# Altium schematic symbol library kmilo17pet-TI_LDO_400_7500.SchLib: 1409 symbols (part 11 of 60)
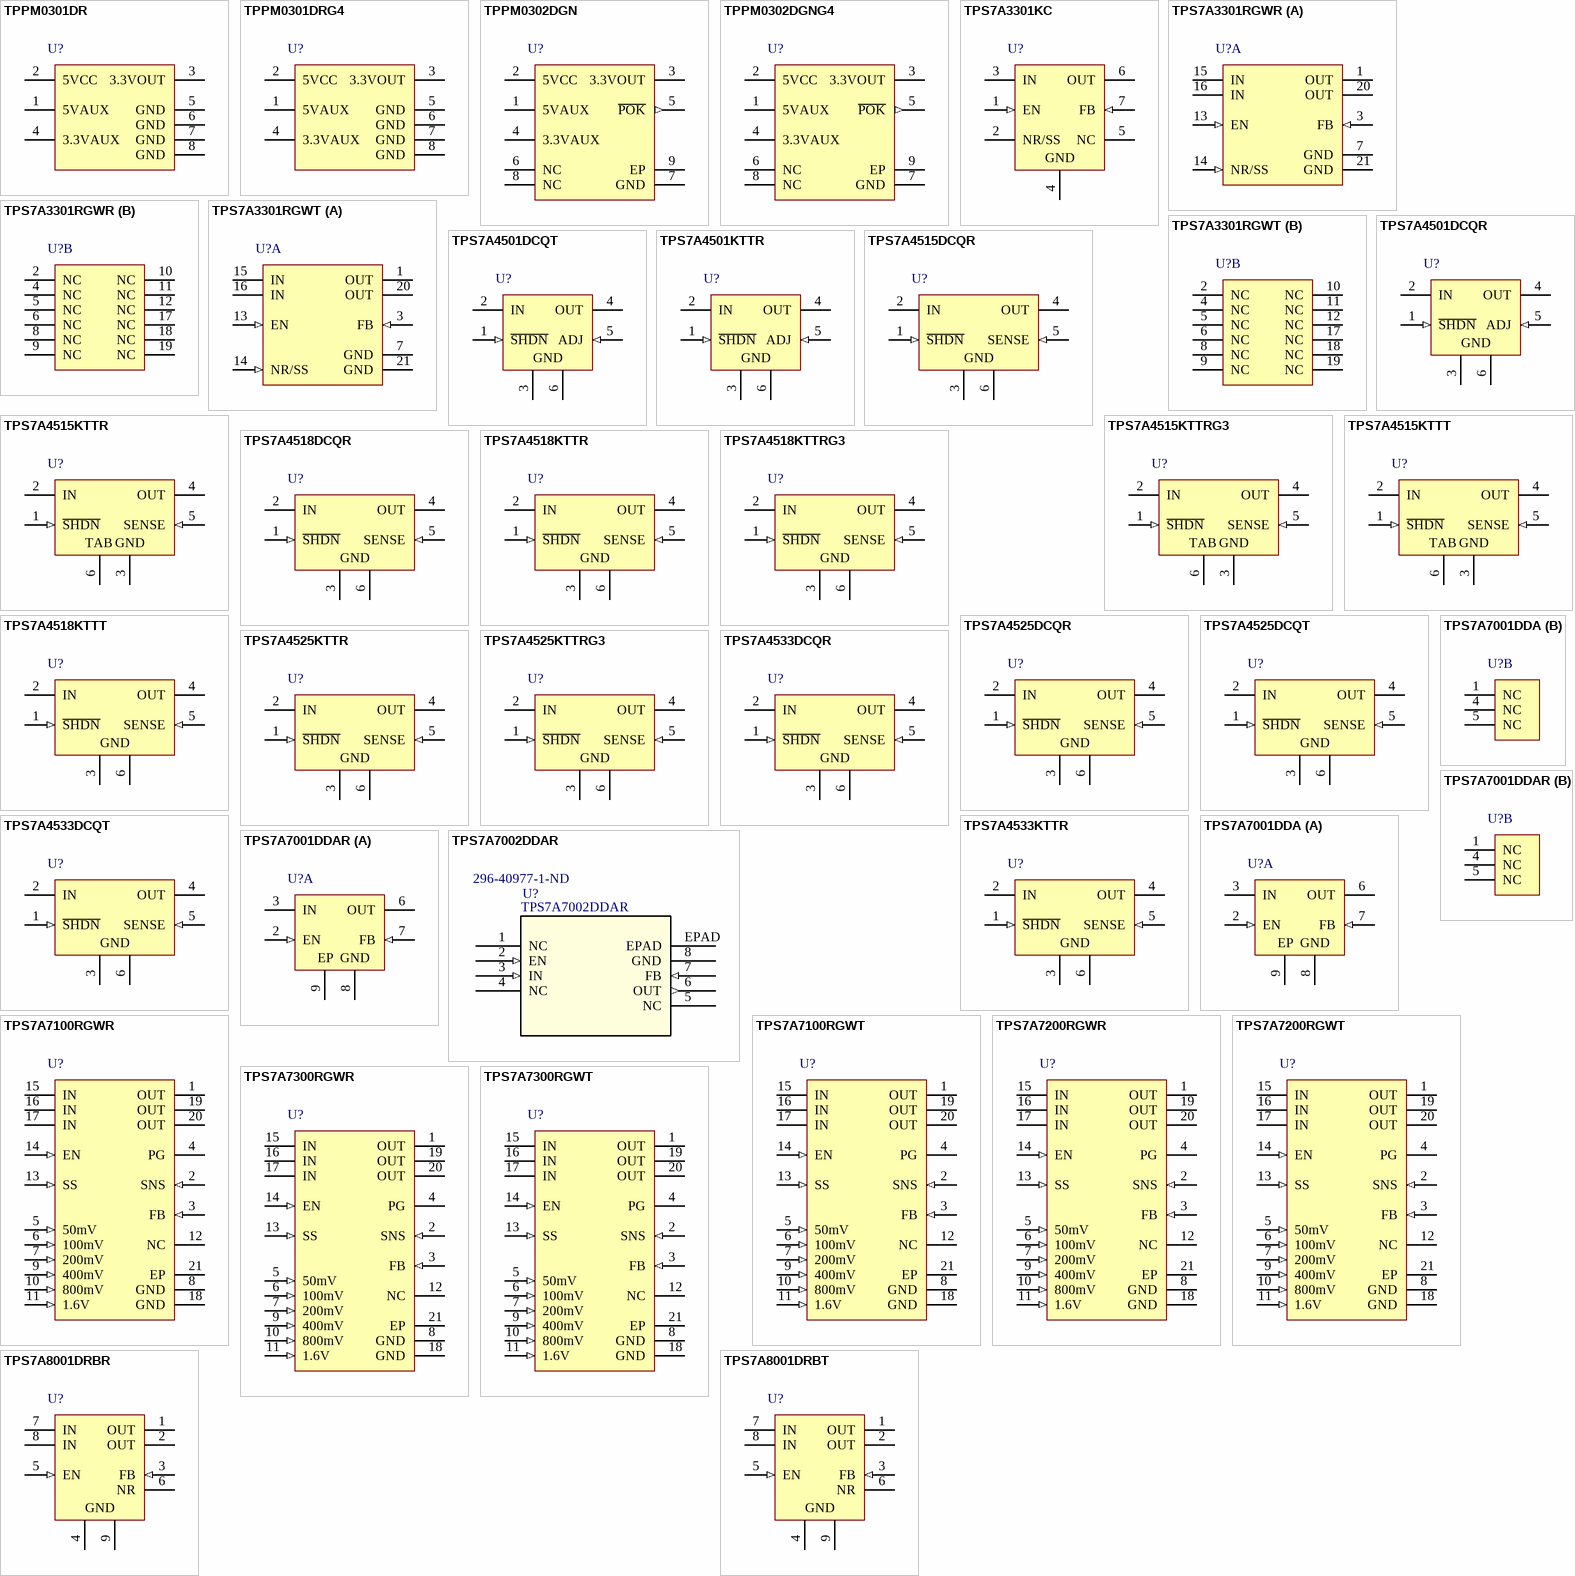
[diagram p60: symbols TPPM0301DR to TPS7A8001DRBT]

## TPS7A7100RGWR
designator U?
Single Output Very Low Input LDO, 1 A, Adjustable 0.9 to 5 V Output, 1.5 to 6.5 V Input, 20-pin VQFN (RGW), -40 to 125 degC, Green (RoHS & no Sb/Br); Manufacturer: Texas Instruments; PartNumber: TPS7A7100RGWR; Accuracy(%): 2; Iout(Max)(A): 1; Iq(Typ)(mA): 0.01; Power Good: TRUE; SubFamily: Single Channel LDO; Vdo(Typ)(mV): 200; Vin(Max)(V): 6.5; Vin(Min)(V): 1.5; Vout Adj(Max)(V): 5; Vout Adj(Min)(V): 0.9; DatasheetVersion: SBVS189C; PackageReference: RGW20-3150X3150TP; PackageDescription: 20-Pin Plastic Quad Flat No-Pin, 5 x 5 mm Body, 0.65 mm Pitch, 3.15 x 3.15 mm Exposed Pad; Supplier 1: Digi-Key; Supplier Part Number 1: TPS7A7100RGWR-ND; Supplier 2: Newark; Supplier Part Number 2: 92T2395; Supplier 3: Mouser; Supplier Part Number 3: 595-TPS7A7100RGWR; Eco-Plan: Green (RoHS & no Sb/Br); Mounting Technology: Surface Mount; Code_JEDEC: MO-220; ComponentLink1Description: Manufacturer URL; ComponentLink1URL: http://www.ti.com/; ComponentLink2Description: Datasheet; ComponentLink2URL: http://www.ti.com/general/docs/lit/getliterature.tsp?genericPartNumber=TPS7A7100&fileType=pdf; ComponentLink3Description: Package Specification; ComponentLink3URL: http://www.ti.com/litv/pdf/mpqf122b
footprint TI-RGW20-3150X3150TP_V (QFN, 20-Leads, Body 5x5mm, Pitch 0.65mm, Thermal Pad 3.15x3.15mm)
pins: 1 OUT (power) "Regulated output pin. A 4.7-uF or larger capacitance is required for stability. See OUTPUT CAPACITOR REQUIREMENTS for more details.", 2 SNS (in) "Output voltage sense input pin. See the USER-CONFIGURABLE OUTPUT VOLTAGE and TRADITIONAL ADJUSTABLE CONFIGURATION sections for more details.", 3 FB (in) "Output voltage feedback pin. Connected to the error amplifier. See the USER-CONFIGURABLE OUTPUT VOLTAGE and TRADITIONAL ADJUSTABLE CONFIGURATION sections for more details.", 4 PG (hiz) "Active-high power good pin. An open-drain output that indicates when the output voltage reaches 90% of the target. See POWER GOOD for more details.", 5 50mV (in) "Output voltage setting pins. These pins should be connected to ground or left floating. Connecting these pins to ground increases the output voltage by the value of the pin name; multiple pins can be simultaneously connected (See Datasheet)", 6 100mV (in) "Output voltage setting pins. These pins should be connected to ground or left floating. Connecting these pins to ground increases the output voltage by the value of the pin name; multiple pins can be simultaneously connected (See Datasheet)", 7 200mV (in) "Output voltage setting pins. These pins should be connected to ground or left floating. Connecting these pins to ground increases the output voltage by the value of the pin name; multiple pins can be simultaneously connected (See Datasheet)", 8 GND (power) "Ground pin.", 9 400mV (in) "Output voltage setting pins. These pins should be connected to ground or left floating. Connecting these pins to ground increases the output voltage by the value of the pin name; multiple pins can be simultaneously connected (See Datasheet)", 10 800mV (in) "Output voltage setting pins. These pins should be connected to ground or left floating. Connecting these pins to ground increases the output voltage by the value of the pin name; multiple pins can be simultaneously connected (See Datasheet)", 11 1.6V (in) "Output voltage setting pins. These pins should be connected to ground or left floating. Connecting these pins to ground increases the output voltage by the value of the pin name; multiple pins can be simultaneously connected (See Datasheet)", 12 NC "Not internally connected. The NC pin is not connected to any electrical node. It is strongly recommended to connect this pin and the thermal pad to a large-area ground plane. See the Power Dissipation section for more (See Datasheet)", 13 SS (in) "Soft-start pin. Leaving this pin open provides soft-start of the default setting.Connecting an external capacitor between this pin and the ground enables the soft-start function by forming an RC-delay circuit in combination (See Datasheet)", 14 EN (in) "Enable pin. Driving this pin to logic high enables the device; driving the pin to logic low disables the device. See the ENABLE AND SHUTDOWN THE DEVICE section for more details.", 15 IN (power) "Unregulated supply voltage pin. It is recommended to connect an input capacitor to this pin. See INPUT CAPACITOR REQUIREMENTS for more details.", 16 IN (power) "Unregulated supply voltage pin. It is recommended to connect an input capacitor to this pin. See INPUT CAPACITOR REQUIREMENTS for more details.", 17 IN (power) "Unregulated supply voltage pin. It is recommended to connect an input capacitor to this pin. See INPUT CAPACITOR REQUIREMENTS for more details.", 18 GND (power) "Ground pin.", 19 OUT (power) "Regulated output pin. A 4.7-uF or larger capacitance is required for stability. See OUTPUT CAPACITOR REQUIREMENTS for more details.", 20 OUT (power) "Regulated output pin. A 4.7-uF or larger capacitance is required for stability. See OUTPUT CAPACITOR REQUIREMENTS for more details.", 21 EP (power) "It is strongly recommended to connect the thermal pad to a large-area ground plane. If available, connect an electrically-floating, dedicated thermal plane to the thermal pad as well."

## TPS7A7100RGWT
designator U?
Single Output Very Low Input LDO, 1 A, Adjustable 0.9 to 5 V Output, 1.5 to 6.5 V Input, 20-pin VQFN (RGW), -40 to 125 degC, Green (RoHS & no Sb/Br); Manufacturer: Texas Instruments; PartNumber: TPS7A7100RGWT; Accuracy(%): 2; Iout(Max)(A): 1; Iq(Typ)(mA): 0.01; Power Good: TRUE; SubFamily: Single Channel LDO; Vdo(Typ)(mV): 200; Vin(Max)(V): 6.5; Vin(Min)(V): 1.5; Vout Adj(Max)(V): 5; Vout Adj(Min)(V): 0.9; DatasheetVersion: SBVS189C; PackageReference: RGW20-3150X3150TP; PackageDescription: 20-Pin Plastic Quad Flat No-Pin, 5 x 5 mm Body, 0.65 mm Pitch, 3.15 x 3.15 mm Exposed Pad; Supplier 1: Digi-Key; Supplier Part Number 1: 296-30366-2-ND; Supplier 2: Digi-Key; Supplier Part Number 2: 296-30366-1-ND; Supplier 3: Digi-Key; Supplier Part Number 3: 296-30366-6-ND; Supplier 4: Farnell; Supplier Part Number 4: 2099935; Supplier 5: Newark; Supplier Part Number 5: 05W5873; Supplier 6: Newark; Supplier Part Number 6: 92T2396; Supplier 7: Mouser; Supplier Part Number 7: 595-TPS7A7100RGWT; Eco-Plan: Green (RoHS & no Sb/Br); Mounting Technology: Surface Mount; Code_JEDEC: MO-220; ComponentLink1Description: Manufacturer URL; ComponentLink1URL: http://www.ti.com/; ComponentLink2Description: Datasheet; ComponentLink2URL: http://www.ti.com/general/docs/lit/getliterature.tsp?genericPartNumber=TPS7A7100&fileType=pdf; ComponentLink3Description: Package Specification; ComponentLink3URL: http://www.ti.com/litv/pdf/mpqf122b
footprint TI-RGW20-3150X3150TP_V (QFN, 20-Leads, Body 5x5mm, Pitch 0.65mm, Thermal Pad 3.15x3.15mm)
pins: 1 OUT (power) "Regulated output pin. A 4.7-uF or larger capacitance is required for stability. See OUTPUT CAPACITOR REQUIREMENTS for more details.", 2 SNS (in) "Output voltage sense input pin. See the USER-CONFIGURABLE OUTPUT VOLTAGE and TRADITIONAL ADJUSTABLE CONFIGURATION sections for more details.", 3 FB (in) "Output voltage feedback pin. Connected to the error amplifier. See the USER-CONFIGURABLE OUTPUT VOLTAGE and TRADITIONAL ADJUSTABLE CONFIGURATION sections for more details.", 4 PG (hiz) "Active-high power good pin. An open-drain output that indicates when the output voltage reaches 90% of the target. See POWER GOOD for more details.", 5 50mV (in) "Output voltage setting pins. These pins should be connected to ground or left floating. Connecting these pins to ground increases the output voltage by the value of the pin name; multiple pins can be simultaneously connected (See Datasheet)", 6 100mV (in) "Output voltage setting pins. These pins should be connected to ground or left floating. Connecting these pins to ground increases the output voltage by the value of the pin name; multiple pins can be simultaneously connected (See Datasheet)", 7 200mV (in) "Output voltage setting pins. These pins should be connected to ground or left floating. Connecting these pins to ground increases the output voltage by the value of the pin name; multiple pins can be simultaneously connected (See Datasheet)", 8 GND (power) "Ground pin.", 9 400mV (in) "Output voltage setting pins. These pins should be connected to ground or left floating. Connecting these pins to ground increases the output voltage by the value of the pin name; multiple pins can be simultaneously connected (See Datasheet)", 10 800mV (in) "Output voltage setting pins. These pins should be connected to ground or left floating. Connecting these pins to ground increases the output voltage by the value of the pin name; multiple pins can be simultaneously connected (See Datasheet)", 11 1.6V (in) "Output voltage setting pins. These pins should be connected to ground or left floating. Connecting these pins to ground increases the output voltage by the value of the pin name; multiple pins can be simultaneously connected (See Datasheet)", 12 NC "Not internally connected. The NC pin is not connected to any electrical node. It is strongly recommended to connect this pin and the thermal pad to a large-area ground plane. See the Power Dissipation section for more (See Datasheet)", 13 SS (in) "Soft-start pin. Leaving this pin open provides soft-start of the default setting.Connecting an external capacitor between this pin and the ground enables the soft-start function by forming an RC-delay circuit in combination (See Datasheet)", 14 EN (in) "Enable pin. Driving this pin to logic high enables the device; driving the pin to logic low disables the device. See the ENABLE AND SHUTDOWN THE DEVICE section for more details.", 15 IN (power) "Unregulated supply voltage pin. It is recommended to connect an input capacitor to this pin. See INPUT CAPACITOR REQUIREMENTS for more details.", 16 IN (power) "Unregulated supply voltage pin. It is recommended to connect an input capacitor to this pin. See INPUT CAPACITOR REQUIREMENTS for more details.", 17 IN (power) "Unregulated supply voltage pin. It is recommended to connect an input capacitor to this pin. See INPUT CAPACITOR REQUIREMENTS for more details.", 18 GND (power) "Ground pin.", 19 OUT (power) "Regulated output pin. A 4.7-uF or larger capacitance is required for stability. See OUTPUT CAPACITOR REQUIREMENTS for more details.", 20 OUT (power) "Regulated output pin. A 4.7-uF or larger capacitance is required for stability. See OUTPUT CAPACITOR REQUIREMENTS for more details.", 21 EP (power) "It is strongly recommended to connect the thermal pad to a large-area ground plane. If available, connect an electrically-floating, dedicated thermal plane to the thermal pad as well."

## TPS7A7200RGWR
designator U?
Single Output Very Low Input LDO, 2 A, Adjustable 0.9 to 5 V Output, 1.5 to 6.5 V Input, 20-pin VQFN (RGW), -40 to 125 degC, Green (RoHS & no Sb/Br); Manufacturer: Texas Instruments; PartNumber: TPS7A7200RGWR; Accuracy(%): 2; Iq(Typ)(mA): 0.01; Power Good: TRUE; SubFamily: Single Channel LDO; Vdo(Typ)(mV): 200; Vin(Max)(V): 6.5; Vin(Min)(V): 1.5; Vout Adj(Max)(V): 5; Vout Adj(Min)(V): 0.9; DatasheetVersion: SBVS136C; PackageReference: RGW20-3150X3150TP; PackageDescription: 20-Pin Plastic Quad Flat No-Pin, 5 x 5 mm Body, 0.65 mm Pitch, 3.15 x 3.15 mm Exposed Pad; Supplier 1: Digi-Key; Supplier Part Number 1: TPS7A7200RGWR-ND; Supplier 2: Newark; Supplier Part Number 2: 92T2398; Supplier 3: Mouser; Supplier Part Number 3: 595-TPS7A7200RGWR; Eco-Plan: Green (RoHS & no Sb/Br); Iout(Max)(A): 2; Mounting Technology: Surface Mount; Code_JEDEC: MO-220; ComponentLink1Description: Manufacturer URL; ComponentLink1URL: http://www.ti.com/; ComponentLink2Description: Datasheet; ComponentLink2URL: http://www.ti.com/general/docs/lit/getliterature.tsp?genericPartNumber=TPS7A7200&fileType=pdf; ComponentLink3Description: Package Specification; ComponentLink3URL: http://www.ti.com/litv/pdf/mpqf122b
footprint TI-RGW20-3150X3150TP_V (QFN, 20-Leads, Body 5x5mm, Pitch 0.65mm, Thermal Pad 3.15x3.15mm)
pins: 1 OUT (power) "Regulated output pin. A 4.7-uF or larger capacitance is required for stability. See OUTPUT CAPACITOR REQUIREMENTS for more details.", 2 SNS (in) "Output voltage sense input pin. See the USER-CONFIGURABLE OUTPUT VOLTAGE and TRADITIONAL ADJUSTABLE CONFIGURATION sections for more details.", 3 FB (in) "Output voltage feedback pin. Connected to the error amplifier. See the USER-CONFIGURABLE OUTPUT VOLTAGE and TRADITIONAL ADJUSTABLE CONFIGURATION sections for more details.", 4 PG (hiz) "Active-high power good pin. An open-drain output that indicates when the output voltage reaches 90% of the target. See POWER GOOD for more details.", 5 50mV (in) "Output voltage setting pins. These pins should be connected to ground or left floating. Connecting these pins to ground increases the output voltage by the value of the pin name; multiple pins can be simultaneously connected (See Datasheet)", 6 100mV (in) "Output voltage setting pins. These pins should be connected to ground or left floating. Connecting these pins to ground increases the output voltage by the value of the pin name; multiple pins can be simultaneously connected (See Datasheet)", 7 200mV (in) "Output voltage setting pins. These pins should be connected to ground or left floating. Connecting these pins to ground increases the output voltage by the value of the pin name; multiple pins can be simultaneously connected (See Datasheet)", 8 GND (power) "Ground pin.", 9 400mV (in) "Output voltage setting pins. These pins should be connected to ground or left floating. Connecting these pins to ground increases the output voltage by the value of the pin name; multiple pins can be simultaneously connected (See Datasheet)", 10 800mV (in) "Output voltage setting pins. These pins should be connected to ground or left floating. Connecting these pins to ground increases the output voltage by the value of the pin name; multiple pins can be simultaneously connected (See Datasheet)", 11 1.6V (in) "Output voltage setting pins. These pins should be connected to ground or left floating. Connecting these pins to ground increases the output voltage by the value of the pin name; multiple pins can be simultaneously connected (See Datasheet)", 12 NC "Not internally connected. The NC pin is not connected to any electrical node. It is strongly recommended to connect this pin and the thermal pad to a large-area ground plane. See the Power Dissipation section for more (See Datasheet)", 13 SS (in) "Soft-start pin. Leaving this pin open provides soft-start of the default setting.Connecting an external capacitor between this pin and the ground enables the soft-start function by forming an RC-delay circuit in combination (See Datasheet)", 14 EN (in) "Enable pin. Driving this pin to logic high enables the device; driving the pin to logic low disables the device. See the ENABLE AND SHUTDOWN THE DEVICE section for more details.", 15 IN (power) "Unregulated supply voltage pin. It is recommended to connect an input capacitor to this pin. See INPUT CAPACITOR REQUIREMENTS for more details.", 16 IN (power) "Unregulated supply voltage pin. It is recommended to connect an input capacitor to this pin. See INPUT CAPACITOR REQUIREMENTS for more details.", 17 IN (power) "Unregulated supply voltage pin. It is recommended to connect an input capacitor to this pin. See INPUT CAPACITOR REQUIREMENTS for more details.", 18 GND (power) "Ground pin.", 19 OUT (power) "Regulated output pin. A 4.7-uF or larger capacitance is required for stability. See OUTPUT CAPACITOR REQUIREMENTS for more details.", 20 OUT (power) "Regulated output pin. A 4.7-uF or larger capacitance is required for stability. See OUTPUT CAPACITOR REQUIREMENTS for more details.", 21 EP (power) "It is strongly recommended to connect the thermal pad to a large-area ground plane. If available, connect an electrically-floating, dedicated thermal plane to the thermal pad as well."

## TPS7A7200RGWT
designator U?
Single Output Very Low Input LDO, 2 A, Adjustable 0.9 to 5 V Output, 1.5 to 6.5 V Input, 20-pin VQFN (RGW), -40 to 125 degC, Green (RoHS & no Sb/Br); Manufacturer: Texas Instruments; PartNumber: TPS7A7200RGWT; Accuracy(%): 2; Iq(Typ)(mA): 0.01; Power Good: TRUE; SubFamily: Single Channel LDO; Vdo(Typ)(mV): 200; Vin(Max)(V): 6.5; Vin(Min)(V): 1.5; Vout Adj(Max)(V): 5; Vout Adj(Min)(V): 0.9; DatasheetVersion: SBVS136C; PackageReference: RGW20-3150X3150TP; PackageDescription: 20-Pin Plastic Quad Flat No-Pin, 5 x 5 mm Body, 0.65 mm Pitch, 3.15 x 3.15 mm Exposed Pad; Supplier 1: Digi-Key; Supplier Part Number 1: 296-30367-2-ND; Supplier 2: Digi-Key; Supplier Part Number 2: 296-30367-1-ND; Supplier 3: Digi-Key; Supplier Part Number 3: 296-30367-6-ND; Supplier 4: Farnell; Supplier Part Number 4: 2099936; Supplier 5: Newark; Supplier Part Number 5: 05W5874; Supplier 6: Newark; Supplier Part Number 6: 92T2399; Supplier 7: Mouser; Supplier Part Number 7: 595-TPS7A7200RGWT; Eco-Plan: Green (RoHS & no Sb/Br); Iout(Max)(A): 2; Mounting Technology: Surface Mount; Code_JEDEC: MO-220; ComponentLink1Description: Manufacturer URL; ComponentLink1URL: http://www.ti.com/; ComponentLink2Description: Datasheet; ComponentLink2URL: http://www.ti.com/general/docs/lit/getliterature.tsp?genericPartNumber=TPS7A7200&fileType=pdf; ComponentLink3Description: Package Specification; ComponentLink3URL: http://www.ti.com/litv/pdf/mpqf122b
footprint TI-RGW20-3150X3150TP_V (QFN, 20-Leads, Body 5x5mm, Pitch 0.65mm, Thermal Pad 3.15x3.15mm)
pins: 1 OUT (power) "Regulated output pin. A 4.7-uF or larger capacitance is required for stability. See OUTPUT CAPACITOR REQUIREMENTS for more details.", 2 SNS (in) "Output voltage sense input pin. See the USER-CONFIGURABLE OUTPUT VOLTAGE and TRADITIONAL ADJUSTABLE CONFIGURATION sections for more details.", 3 FB (in) "Output voltage feedback pin. Connected to the error amplifier. See the USER-CONFIGURABLE OUTPUT VOLTAGE and TRADITIONAL ADJUSTABLE CONFIGURATION sections for more details.", 4 PG (hiz) "Active-high power good pin. An open-drain output that indicates when the output voltage reaches 90% of the target. See POWER GOOD for more details.", 5 50mV (in) "Output voltage setting pins. These pins should be connected to ground or left floating. Connecting these pins to ground increases the output voltage by the value of the pin name; multiple pins can be simultaneously connected (See Datasheet)", 6 100mV (in) "Output voltage setting pins. These pins should be connected to ground or left floating. Connecting these pins to ground increases the output voltage by the value of the pin name; multiple pins can be simultaneously connected (See Datasheet)", 7 200mV (in) "Output voltage setting pins. These pins should be connected to ground or left floating. Connecting these pins to ground increases the output voltage by the value of the pin name; multiple pins can be simultaneously connected (See Datasheet)", 8 GND (power) "Ground pin.", 9 400mV (in) "Output voltage setting pins. These pins should be connected to ground or left floating. Connecting these pins to ground increases the output voltage by the value of the pin name; multiple pins can be simultaneously connected (See Datasheet)", 10 800mV (in) "Output voltage setting pins. These pins should be connected to ground or left floating. Connecting these pins to ground increases the output voltage by the value of the pin name; multiple pins can be simultaneously connected (See Datasheet)", 11 1.6V (in) "Output voltage setting pins. These pins should be connected to ground or left floating. Connecting these pins to ground increases the output voltage by the value of the pin name; multiple pins can be simultaneously connected (See Datasheet)", 12 NC "Not internally connected. The NC pin is not connected to any electrical node. It is strongly recommended to connect this pin and the thermal pad to a large-area ground plane. See the Power Dissipation section for more (See Datasheet)", 13 SS (in) "Soft-start pin. Leaving this pin open provides soft-start of the default setting.Connecting an external capacitor between this pin and the ground enables the soft-start function by forming an RC-delay circuit in combination (See Datasheet)", 14 EN (in) "Enable pin. Driving this pin to logic high enables the device; driving the pin to logic low disables the device. See the ENABLE AND SHUTDOWN THE DEVICE section for more details.", 15 IN (power) "Unregulated supply voltage pin. It is recommended to connect an input capacitor to this pin. See INPUT CAPACITOR REQUIREMENTS for more details.", 16 IN (power) "Unregulated supply voltage pin. It is recommended to connect an input capacitor to this pin. See INPUT CAPACITOR REQUIREMENTS for more details.", 17 IN (power) "Unregulated supply voltage pin. It is recommended to connect an input capacitor to this pin. See INPUT CAPACITOR REQUIREMENTS for more details.", 18 GND (power) "Ground pin.", 19 OUT (power) "Regulated output pin. A 4.7-uF or larger capacitance is required for stability. See OUTPUT CAPACITOR REQUIREMENTS for more details.", 20 OUT (power) "Regulated output pin. A 4.7-uF or larger capacitance is required for stability. See OUTPUT CAPACITOR REQUIREMENTS for more details.", 21 EP (power) "It is strongly recommended to connect the thermal pad to a large-area ground plane. If available, connect an electrically-floating, dedicated thermal plane to the thermal pad as well."

## TPS7A7300RGWR
designator U?
Single Output Fast-Transient LDO, 3 A, Adjustable 0.9 to 5 V Output, 1.5 to 6.5 V Input, 20-pin VQFN (RGW), -40 to 125 degC, Green (RoHS & no Sb/Br); Manufacturer: Texas Instruments; PartNumber: TPS7A7300RGWR; Accuracy(%): 2; Iout(Max)(A): 3; Iq(Typ)(mA): 0.01; Power Good: TRUE; SubFamily: Single Channel LDO; Vdo(Typ)(mV): 200; Vin(Max)(V): 6.5; Vin(Min)(V): 1.5; Vout Adj(Max)(V): 5; Vout Adj(Min)(V): 0.9; DatasheetVersion: SBVS190B; PackageReference: RGW20-3150X3150TP; PackageDescription: 20-Pin Plastic Quad Flat No-Pin, 5 x 5 mm Body, 0.65 mm Pitch, 3.15 x 3.15 mm Exposed Pad; Supplier 1: Digi-Key; Supplier Part Number 1: TPS7A7300RGWR-ND; Supplier 2: Newark; Supplier Part Number 2: 92T2401; Supplier 3: Mouser; Supplier Part Number 3: 595-TPS7A7300RGWR; Eco-Plan: Green (RoHS & no Sb/Br); Mounting Technology: Surface Mount; Code_JEDEC: MO-220; ComponentLink1Description: Manufacturer URL; ComponentLink1URL: http://www.ti.com/; ComponentLink2Description: Datasheet; ComponentLink2URL: http://www.ti.com/general/docs/lit/getliterature.tsp?genericPartNumber=TPS7A7300&fileType=pdf; ComponentLink3Description: Package Specification; ComponentLink3URL: http://www.ti.com/litv/pdf/mpqf122b
footprint TI-RGW20-3150X3150TP_V (QFN, 20-Leads, Body 5x5mm, Pitch 0.65mm, Thermal Pad 3.15x3.15mm)
pins: 1 OUT (power) "Regulated output pin. A 4.7-uF or larger capacitance is required for stability. See OUTPUT CAPACITOR REQUIREMENTS for more details.", 2 SNS (in) "Output voltage sense input pin. See the USER-CONFIGURABLE OUTPUT VOLTAGE and TRADITIONAL ADJUSTABLE CONFIGURATION sections for more details.", 3 FB (in) "Output voltage feedback pin. Connected to the error amplifier. See the USER-CONFIGURABLE OUTPUT VOLTAGE and TRADITIONAL ADJUSTABLE CONFIGURATION sections for more details.", 4 PG (hiz) "Active-high power good pin. An open-drain output that indicates when the output voltage reaches 90% of the target. See POWER GOOD for more details.", 5 50mV (in) "Output voltage setting pins. These pins should be connected to ground or left floating. Connecting these pins to ground increases the output voltage by the value of the pin name; multiple pins can be simultaneously connected (See Datasheet)", 6 100mV (in) "Output voltage setting pins. These pins should be connected to ground or left floating. Connecting these pins to ground increases the output voltage by the value of the pin name; multiple pins can be simultaneously connected (See Datasheet)", 7 200mV (in) "Output voltage setting pins. These pins should be connected to ground or left floating. Connecting these pins to ground increases the output voltage by the value of the pin name; multiple pins can be simultaneously connected (See Datasheet)", 8 GND (power) "Ground pin.", 9 400mV (in) "Output voltage setting pins. These pins should be connected to ground or left floating. Connecting these pins to ground increases the output voltage by the value of the pin name; multiple pins can be simultaneously connected (See Datasheet)", 10 800mV (in) "Output voltage setting pins. These pins should be connected to ground or left floating. Connecting these pins to ground increases the output voltage by the value of the pin name; multiple pins can be simultaneously connected (See Datasheet)", 11 1.6V (in) "Output voltage setting pins. These pins should be connected to ground or left floating. Connecting these pins to ground increases the output voltage by the value of the pin name; multiple pins can be simultaneously connected (See Datasheet)", 12 NC "Not internally connected. The NC pin is not connected to any electrical node. It is strongly recommended to connect this pin and the thermal pad to a large-area ground plane. See the Power Dissipation section for more (See Datasheet)", 13 SS (in) "Soft-start pin. Leaving this pin open provides soft-start of the default setting.Connecting an external capacitor between this pin and the ground enables the soft-start function by forming an RC-delay circuit in combination (See Datasheet)", 14 EN (in) "Enable pin. Driving this pin to logic high enables the device; driving the pin to logic low disables the device. See the ENABLE AND SHUTDOWN THE DEVICE section for more details.", 15 IN (power) "Unregulated supply voltage pin. It is recommended to connect an input capacitor to this pin. See INPUT CAPACITOR REQUIREMENTS for more details.", 16 IN (power) "Unregulated supply voltage pin. It is recommended to connect an input capacitor to this pin. See INPUT CAPACITOR REQUIREMENTS for more details.", 17 IN (power) "Unregulated supply voltage pin. It is recommended to connect an input capacitor to this pin. See INPUT CAPACITOR REQUIREMENTS for more details.", 18 GND (power) "Ground pin.", 19 OUT (power) "Regulated output pin. A 4.7-uF or larger capacitance is required for stability. See OUTPUT CAPACITOR REQUIREMENTS for more details.", 20 OUT (power) "Regulated output pin. A 4.7-uF or larger capacitance is required for stability. See OUTPUT CAPACITOR REQUIREMENTS for more details.", 21 EP (power) "It is strongly recommended to connect the thermal pad to a large-area ground plane. If available, connect an electrically-floating, dedicated thermal plane to the thermal pad as well."

## TPS7A7300RGWT
designator U?
Single Output Fast-Transient LDO, 3 A, Adjustable 0.9 to 5 V Output, 1.5 to 6.5 V Input, 20-pin VQFN (RGW), -40 to 125 degC, Green (RoHS & no Sb/Br); Manufacturer: Texas Instruments; PartNumber: TPS7A7300RGWT; Accuracy(%): 2; Iout(Max)(A): 3; Iq(Typ)(mA): 0.01; Power Good: TRUE; SubFamily: Single Channel LDO; Vdo(Typ)(mV): 200; Vin(Max)(V): 6.5; Vin(Min)(V): 1.5; Vout Adj(Max)(V): 5; Vout Adj(Min)(V): 0.9; DatasheetVersion: SBVS190B; PackageReference: RGW20-3150X3150TP; PackageDescription: 20-Pin Plastic Quad Flat No-Pin, 5 x 5 mm Body, 0.65 mm Pitch, 3.15 x 3.15 mm Exposed Pad; Supplier 1: Digi-Key; Supplier Part Number 1: 296-30368-2-ND; Supplier 2: Digi-Key; Supplier Part Number 2: 296-30368-1-ND; Supplier 3: Digi-Key; Supplier Part Number 3: 296-30368-6-ND; Supplier 4: Farnell; Supplier Part Number 4: 2099938; Supplier 5: Newark; Supplier Part Number 5: 05W5875; Supplier 6: Newark; Supplier Part Number 6: 92T2402; Supplier 7: Mouser; Supplier Part Number 7: 595-TPS7A7300RGWT; Eco-Plan: Green (RoHS & no Sb/Br); Mounting Technology: Surface Mount; Code_JEDEC: MO-220; ComponentLink1Description: Manufacturer URL; ComponentLink1URL: http://www.ti.com/; ComponentLink2Description: Datasheet; ComponentLink2URL: http://www.ti.com/general/docs/lit/getliterature.tsp?genericPartNumber=TPS7A7300&fileType=pdf; ComponentLink3Description: Package Specification; ComponentLink3URL: http://www.ti.com/litv/pdf/mpqf122b
footprint TI-RGW20-3150X3150TP_V (QFN, 20-Leads, Body 5x5mm, Pitch 0.65mm, Thermal Pad 3.15x3.15mm)
pins: 1 OUT (power) "Regulated output pin. A 4.7-uF or larger capacitance is required for stability. See OUTPUT CAPACITOR REQUIREMENTS for more details.", 2 SNS (in) "Output voltage sense input pin. See the USER-CONFIGURABLE OUTPUT VOLTAGE and TRADITIONAL ADJUSTABLE CONFIGURATION sections for more details.", 3 FB (in) "Output voltage feedback pin. Connected to the error amplifier. See the USER-CONFIGURABLE OUTPUT VOLTAGE and TRADITIONAL ADJUSTABLE CONFIGURATION sections for more details.", 4 PG (hiz) "Active-high power good pin. An open-drain output that indicates when the output voltage reaches 90% of the target. See POWER GOOD for more details.", 5 50mV (in) "Output voltage setting pins. These pins should be connected to ground or left floating. Connecting these pins to ground increases the output voltage by the value of the pin name; multiple pins can be simultaneously connected (See Datasheet)", 6 100mV (in) "Output voltage setting pins. These pins should be connected to ground or left floating. Connecting these pins to ground increases the output voltage by the value of the pin name; multiple pins can be simultaneously connected (See Datasheet)", 7 200mV (in) "Output voltage setting pins. These pins should be connected to ground or left floating. Connecting these pins to ground increases the output voltage by the value of the pin name; multiple pins can be simultaneously connected (See Datasheet)", 8 GND (power) "Ground pin.", 9 400mV (in) "Output voltage setting pins. These pins should be connected to ground or left floating. Connecting these pins to ground increases the output voltage by the value of the pin name; multiple pins can be simultaneously connected (See Datasheet)", 10 800mV (in) "Output voltage setting pins. These pins should be connected to ground or left floating. Connecting these pins to ground increases the output voltage by the value of the pin name; multiple pins can be simultaneously connected (See Datasheet)", 11 1.6V (in) "Output voltage setting pins. These pins should be connected to ground or left floating. Connecting these pins to ground increases the output voltage by the value of the pin name; multiple pins can be simultaneously connected (See Datasheet)", 12 NC "Not internally connected. The NC pin is not connected to any electrical node. It is strongly recommended to connect this pin and the thermal pad to a large-area ground plane. See the Power Dissipation section for more (See Datasheet)", 13 SS (in) "Soft-start pin. Leaving this pin open provides soft-start of the default setting.Connecting an external capacitor between this pin and the ground enables the soft-start function by forming an RC-delay circuit in combination (See Datasheet)", 14 EN (in) "Enable pin. Driving this pin to logic high enables the device; driving the pin to logic low disables the device. See the ENABLE AND SHUTDOWN THE DEVICE section for more details.", 15 IN (power) "Unregulated supply voltage pin. It is recommended to connect an input capacitor to this pin. See INPUT CAPACITOR REQUIREMENTS for more details.", 16 IN (power) "Unregulated supply voltage pin. It is recommended to connect an input capacitor to this pin. See INPUT CAPACITOR REQUIREMENTS for more details.", 17 IN (power) "Unregulated supply voltage pin. It is recommended to connect an input capacitor to this pin. See INPUT CAPACITOR REQUIREMENTS for more details.", 18 GND (power) "Ground pin.", 19 OUT (power) "Regulated output pin. A 4.7-uF or larger capacitance is required for stability. See OUTPUT CAPACITOR REQUIREMENTS for more details.", 20 OUT (power) "Regulated output pin. A 4.7-uF or larger capacitance is required for stability. See OUTPUT CAPACITOR REQUIREMENTS for more details.", 21 EP (power) "It is strongly recommended to connect the thermal pad to a large-area ground plane. If available, connect an electrically-floating, dedicated thermal plane to the thermal pad as well."

## TPS7A8001DRBR
designator U?
Single Output LDO, 1 A, Adjustable 0.8 to 6 V Output, 2.2 to 6.5 V Input, with High-Bandwidth PSRR, 8-pin SON (DRB), -40 to 125 degC, Green (RoHS & no Sb/Br); Manufacturer: Texas Instruments; PartNumber: TPS7A8001DRBR; Accuracy(%): 3; Iout(Max)(A): 1; Iq(Typ)(mA): 0.04; SubFamily: Single Channel LDO; Vdo(Typ)(mV): 170; Vin(Max)(V): 6.5; Vin(Min)(V): 2.2; Vout Adj(Max)(V): 6; Vout Adj(Min)(V): 0.8; DatasheetVersion: SBVS135G; PackageVersion: 4203482-2/K; PackageReference: DRB8-1750X1500TP; PackageDescription: 8-Pin Plastic Small Outline, Body 3 x 3 mm, Pitch 0.65 mm; Supplier 1: Digi-Key; Supplier Part Number 1: 296-27630-2-ND; Supplier 2: Digi-Key; Supplier Part Number 2: 296-27630-1-ND; Supplier 3: Digi-Key; Supplier Part Number 3: 296-27630-6-ND; Supplier 4: Newark; Supplier Part Number 4: 79R8601; Supplier 5: Mouser; Supplier Part Number 5: 595-TPS7A8001DRBR; Eco-Plan: Green (RoHS & no Sb/Br); Mounting Technology: Surface Mount; ComponentLink1Description: Manufacturer URL; ComponentLink1URL: http://www.ti.com/; ComponentLink2Description: Datasheet; ComponentLink2URL: http://www.ti.com/general/docs/lit/getliterature.tsp?genericPartNumber=TPS7A8001&fileType=pdf; ComponentLink3Description: Package Specification; ComponentLink3URL: http://www.ti.com/litv/pdf/mpds118h
footprint TI-DRB8-1750X1500TP_V (SON, 8-Leads, Body 3x3mm, Pitch 0.65mm, Thermal Pad 1.50 x 3.8mm)
pins: 1 OUT (power) "Regulator output. A 4.7 uF or larger capacitor of any type is required for stability.", 2 OUT (power) "Regulator output. A 4.7 uF or larger capacitor of any type is required for stability.", 3 FB (in) "Adjustable voltage version only. This pin is the input to the control loop error amplifier and is used to set the output voltage of the device.", 4 GND (power) "Ground.", 5 EN (in) "Driving the enable pin (EN) high turns on the regulator. Driving this pin low puts the regulator into shutdown mode. Refer to Shutdown in the Application Information section for more details. EN must not be left floating and (See Datasheet)", 6 NR "Connect an external capacitor between this pin and ground to reduce output noise to very low levels. Also, the capacitor slows down the VOUT ramp (RC softstart).", 7 IN (power) "Unregulated input supply.", 8 IN (power) "Unregulated input supply.", 9 GND (power) "Ground."

## TPS7A8001DRBT
designator U?
Single Output LDO, 1 A, Adjustable 0.8 to 6 V Output, 2.2 to 6.5 V Input, with High-Bandwidth PSRR, 8-pin SON (DRB), -40 to 125 degC, Green (RoHS & no Sb/Br); Manufacturer: Texas Instruments; PartNumber: TPS7A8001DRBT; Accuracy(%): 3; Iout(Max)(A): 1; Iq(Typ)(mA): 0.04; SubFamily: Single Channel LDO; Vdo(Typ)(mV): 170; Vin(Max)(V): 6.5; Vin(Min)(V): 2.2; Vout Adj(Max)(V): 6; Vout Adj(Min)(V): 0.8; DatasheetVersion: SBVS135G; PackageVersion: 4203482-2/K; PackageReference: DRB8-1750X1500TP; PackageDescription: 8-Pin Plastic Small Outline, Body 3 x 3 mm, Pitch 0.65 mm; Supplier 1: Digi-Key; Supplier Part Number 1: 296-27758-2-ND; Supplier 2: Digi-Key; Supplier Part Number 2: 296-27758-1-ND; Supplier 3: Digi-Key; Supplier Part Number 3: 296-27758-6-ND; Supplier 4: Farnell; Supplier Part Number 4: 1829694; Supplier 5: Farnell; Supplier Part Number 5: 1829694RL; Supplier 6: Newark; Supplier Part Number 6: 79R9092; Supplier 7: Mouser; Supplier Part Number 7: 595-TPS7A8001DRBT; Eco-Plan: Green (RoHS & no Sb/Br); Mounting Technology: Surface Mount; ComponentLink1Description: Manufacturer URL; ComponentLink1URL: http://www.ti.com/; ComponentLink2Description: Datasheet; ComponentLink2URL: http://www.ti.com/general/docs/lit/getliterature.tsp?genericPartNumber=TPS7A8001&fileType=pdf; ComponentLink3Description: Package Specification; ComponentLink3URL: http://www.ti.com/litv/pdf/mpds118h
footprint TI-DRB8-1750X1500TP_V (SON, 8-Leads, Body 3x3mm, Pitch 0.65mm, Thermal Pad 1.50 x 3.8mm)
pins: 1 OUT (power) "Regulator output. A 4.7 uF or larger capacitor of any type is required for stability.", 2 OUT (power) "Regulator output. A 4.7 uF or larger capacitor of any type is required for stability.", 3 FB (in) "Adjustable voltage version only. This pin is the input to the control loop error amplifier and is used to set the output voltage of the device.", 4 GND (power) "Ground.", 5 EN (in) "Driving the enable pin (EN) high turns on the regulator. Driving this pin low puts the regulator into shutdown mode. Refer to Shutdown in the Application Information section for more details. EN must not be left floating and (See Datasheet)", 6 NR "Connect an external capacitor between this pin and ground to reduce output noise to very low levels. Also, the capacitor slows down the VOUT ramp (RC softstart).", 7 IN (power) "Unregulated input supply.", 8 IN (power) "Unregulated input supply.", 9 GND (power) "Ground."

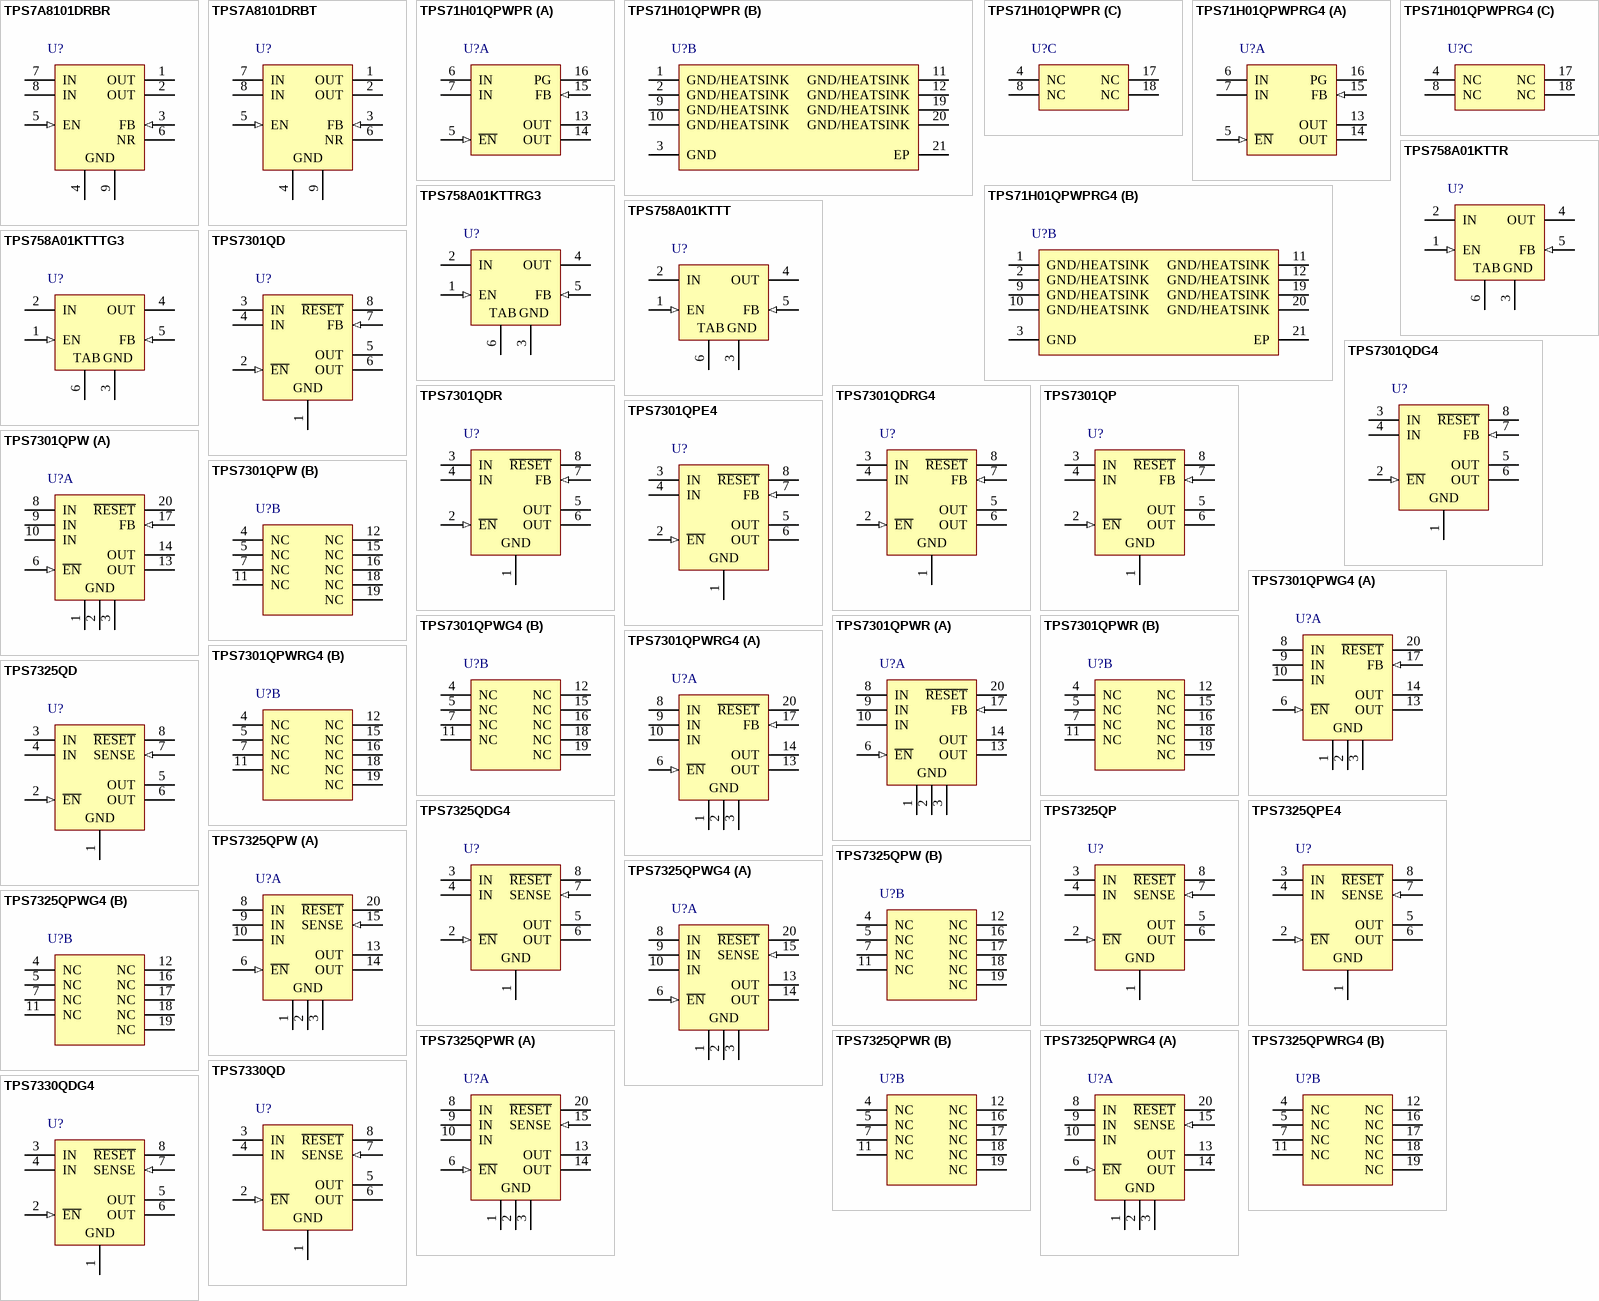
[diagram p7: symbols TPS7A8101DRBR to TPS7330QDG4]

## TPS7A8101DRBR
designator U?
Single Output LDO, 1 A, Adjustable 0.8 to 6 V Output, 2.2 to 6.5 V Input, with High-Bandwidth PSRR, 8-pin SON (DRB), -40 to 125 degC, Green (RoHS & no Sb/Br); Manufacturer: Texas Instruments; PartNumber: TPS7A8101DRBR; Accuracy(%): 3; Iout(Max)(A): 1; Iq(Typ)(mA): 0.04; SubFamily: Single Channel LDO; Vdo(Typ)(mV): 170; Vin(Max)(V): 6.5; Vin(Min)(V): 2.2; Vout Adj(Max)(V): 6; Vout Adj(Min)(V): 0.8; DatasheetVersion: SBVS179A; PackageVersion: 4203482-2/K; PackageReference: DRB8-1750X1500TP; PackageDescription: 8-Pin Plastic Small Outline, Body 3 x 3 mm, Pitch 0.65 mm; Supplier 1: Digi-Key; Supplier Part Number 1: TPS7A8101DRBR-ND; Supplier 2: Newark; Supplier Part Number 2: 76T8170; Supplier 3: Mouser; Supplier Part Number 3: 595-TPS7A8101DRBR; Eco-Plan: Green (RoHS & no Sb/Br); Mounting Technology: Surface Mount; ComponentLink1Description: Manufacturer URL; ComponentLink1URL: http://www.ti.com/; ComponentLink2Description: Datasheet; ComponentLink2URL: http://www.ti.com/general/docs/lit/getliterature.tsp?genericPartNumber=TPS7A8101&fileType=pdf; ComponentLink3Description: Package Specification; ComponentLink3URL: http://www.ti.com/litv/pdf/mpds118h
footprint TI-DRB8-1750X1500TP_V (SON, 8-Leads, Body 3x3mm, Pitch 0.65mm, Thermal Pad 1.50 x 3.8mm)
pins: 1 OUT (power) "Regulator output. A 4.7 uF or larger capacitor of any type is required for stability.", 2 OUT (power) "Regulator output. A 4.7 uF or larger capacitor of any type is required for stability.", 3 FB (in) "Adjustable voltage version only. This pin is the input to the control loop error amplifier and is used to set the output voltage of the device.", 4 GND (power) "Ground.", 5 EN (in) "Driving the enable pin (EN) high turns on the regulator. Driving this pin low puts the regulator into shutdown mode. Refer to Shutdown in the Application Information section for more details. EN must not be left floating and (See Datasheet)", 6 NR "Connect an external capacitor between this pin and ground to reduce output noise to very low levels. Also, the capacitor slows down the VOUT ramp (RC softstart).", 7 IN (power) "Unregulated input supply.", 8 IN (power) "Unregulated input supply.", 9 GND (power) "Ground."

## TPS7A8101DRBT
designator U?
Single Output LDO, 1 A, Adjustable 0.8 to 6 V Output, 2.2 to 6.5 V Input, with High-Bandwidth PSRR, 8-pin SON (DRB), -40 to 125 degC, Green (RoHS & no Sb/Br); Manufacturer: Texas Instruments; PartNumber: TPS7A8101DRBT; Accuracy(%): 3; Iout(Max)(A): 1; Iq(Typ)(mA): 0.04; SubFamily: Single Channel LDO; Vdo(Typ)(mV): 170; Vin(Max)(V): 6.5; Vin(Min)(V): 2.2; Vout Adj(Max)(V): 6; Vout Adj(Min)(V): 0.8; DatasheetVersion: SBVS179A; PackageVersion: 4203482-2/K; PackageReference: DRB8-1750X1500TP; PackageDescription: 8-Pin Plastic Small Outline, Body 3 x 3 mm, Pitch 0.65 mm; Supplier 1: Digi-Key; Supplier Part Number 1: 296-30110-2-ND; Supplier 2: Digi-Key; Supplier Part Number 2: 296-30110-1-ND; Supplier 3: Digi-Key; Supplier Part Number 3: 296-30110-6-ND; Supplier 4: Farnell; Supplier Part Number 4: 2078549; Supplier 5: Newark; Supplier Part Number 5: 82T9742; Supplier 6: Newark; Supplier Part Number 6: 76T8171; Supplier 7: Mouser; Supplier Part Number 7: 595-TPS7A8101DRBT; Eco-Plan: Green (RoHS & no Sb/Br); Mounting Technology: Surface Mount; ComponentLink1Description: Manufacturer URL; ComponentLink1URL: http://www.ti.com/; ComponentLink2Description: Datasheet; ComponentLink2URL: http://www.ti.com/general/docs/lit/getliterature.tsp?genericPartNumber=TPS7A8101&fileType=pdf; ComponentLink3Description: Package Specification; ComponentLink3URL: http://www.ti.com/litv/pdf/mpds118h
footprint TI-DRB8-1750X1500TP_V (SON, 8-Leads, Body 3x3mm, Pitch 0.65mm, Thermal Pad 1.50 x 3.8mm)
pins: 1 OUT (power) "Regulator output. A 4.7 uF or larger capacitor of any type is required for stability.", 2 OUT (power) "Regulator output. A 4.7 uF or larger capacitor of any type is required for stability.", 3 FB (in) "Adjustable voltage version only. This pin is the input to the control loop error amplifier and is used to set the output voltage of the device.", 4 GND (power) "Ground.", 5 EN (in) "Driving the enable pin (EN) high turns on the regulator. Driving this pin low puts the regulator into shutdown mode. Refer to Shutdown in the Application Information section for more details. EN must not be left floating and (See Datasheet)", 6 NR "Connect an external capacitor between this pin and ground to reduce output noise to very low levels. Also, the capacitor slows down the VOUT ramp (RC softstart).", 7 IN (power) "Unregulated input supply.", 8 IN (power) "Unregulated input supply.", 9 GND (power) "Ground."

## TPS71H01QPWPR
designator U?
Single Output LDO, 500 mA, Adjustable 1.2 to 9.75 V Output, 2.5 to 10 V Input, with Low IQ, 20-pin HTSSOP (PWP), -40 to 125 degC, Green (RoHS & no Sb/Br); Manufacturer: Texas Instruments; PartNumber: TPS71H01QPWPR; Iout(Max)(A): 0.5; Iq(Typ)(mA): 0.28; Power Good: TRUE; SubFamily: Single Channel LDO; Vdo(Typ)(mV): 235; Vin(Max)(V): 10; Vin(Min)(V): 2.5; Vout Adj(Max)(V): 9.75; Vout Adj(Min)(V): 1.2; DatasheetVersion: SLVS152B; PackageVersion: 4073225-4/I; PackageReference: PWP20-2980X2000TP; PackageDescription: 20-Pin Plastic Small Outline, Body 4.4 x 6.5 mm, Pitch 0.65 mm; Supplier 1: Digi-Key; Supplier Part Number 1: 296-8051-2-ND; Supplier 2: Digi-Key; Supplier Part Number 2: 296-8051-1-ND; Supplier 3: Digi-Key; Supplier Part Number 3: 296-8051-6-ND; Supplier 4: Newark; Supplier Part Number 4: 77C0800; Supplier 5: Mouser; Supplier Part Number 5: 595-TPS71H01QPWPR; Eco-Plan: Green (RoHS & no Sb/Br); Mounting Technology: Surface Mount; Code_JEDEC: MO-153; ComponentLink1Description: Manufacturer URL; ComponentLink1URL: http://www.ti.com/; ComponentLink2Description: Datasheet; ComponentLink2URL: http://www.ti.com/general/docs/lit/getliterature.tsp?genericPartNumber=TPS71H01&fileType=pdf; ComponentLink3Description: Package Specification; ComponentLink3URL: http://www.ti.com/litv/pdf/mhts001g
footprint TI-PWP20-2980X2000TP_N (SOP, 20-Leads, Body 6.5x4.4mm, Pitch 0.65mm, Thermal Pad 2.975x2 mm, IPC Medium Density)
footprint TI-PWP20-2980X2000TP_L (SOP, 20-Leads, Body 6.5x4.4mm, Pitch 0.65mm, Thermal Pad 2.975x2 mm, IPC High Density)
footprint TI-PWP20-2980X2000TP_M (SOP, 20-Leads, Body 6.5x4.4mm, Pitch 0.65mm, Thermal Pad 2.975x2 mm, IPC Low Density)
part A pins: 5 ~{EN} (in), 6 IN (power), 7 IN (power), 13 OUT (power), 14 OUT (power), 15 FB (in), 16 PG (hiz)
part B pins: 1 GND/HEATSINK (power), 2 GND/HEATSINK (power), 3 GND (power), 9 GND/HEATSINK (power), 10 GND/HEATSINK (power), 11 GND/HEATSINK (power), 12 GND/HEATSINK (power), 19 GND/HEATSINK (power), 20 GND/HEATSINK (power), 21 EP
part C pins: 4 NC, 8 NC, 17 NC, 18 NC

## TPS71H01QPWPRG4
designator U?
Single Output LDO, 500 mA, Adjustable 1.2 to 9.75 V Output, 2.5 to 10 V Input, with Low IQ, 20-pin HTSSOP (PWP), -40 to 125 degC, Green (RoHS & no Sb/Br); Manufacturer: Texas Instruments; PartNumber: TPS71H01QPWPRG4; Iout(Max)(A): 0.5; Iq(Typ)(mA): 0.28; Power Good: TRUE; SubFamily: Single Channel LDO; Vdo(Typ)(mV): 235; Vin(Max)(V): 10; Vin(Min)(V): 2.5; Vout Adj(Max)(V): 9.75; Vout Adj(Min)(V): 1.2; DatasheetVersion: SLVS152B; PackageVersion: 4073225-4/I; PackageReference: PWP20-2980X2000TP; PackageDescription: 20-Pin Plastic Small Outline, Body 4.4 x 6.5 mm, Pitch 0.65 mm; Supplier 1: Digi-Key; Supplier Part Number 1: TPS71H01QPWPRG4-ND; Supplier 2: Newark; Supplier Part Number 2: 54K1768; Supplier 3: Mouser; Supplier Part Number 3: 595-TPS71H01QPWPRG4; Eco-Plan: Green (RoHS & no Sb/Br); Mounting Technology: Surface Mount; Code_JEDEC: MO-153; ComponentLink1Description: Manufacturer URL; ComponentLink1URL: http://www.ti.com/; ComponentLink2Description: Datasheet; ComponentLink2URL: http://www.ti.com/general/docs/lit/getliterature.tsp?genericPartNumber=TPS71H01&fileType=pdf; ComponentLink3Description: Package Specification; ComponentLink3URL: http://www.ti.com/litv/pdf/mhts001g
footprint TI-PWP20-2980X2000TP_N (SOP, 20-Leads, Body 6.5x4.4mm, Pitch 0.65mm, Thermal Pad 2.975x2 mm, IPC Medium Density)
footprint TI-PWP20-2980X2000TP_L (SOP, 20-Leads, Body 6.5x4.4mm, Pitch 0.65mm, Thermal Pad 2.975x2 mm, IPC High Density)
footprint TI-PWP20-2980X2000TP_M (SOP, 20-Leads, Body 6.5x4.4mm, Pitch 0.65mm, Thermal Pad 2.975x2 mm, IPC Low Density)
part A pins: 5 ~{EN} (in), 6 IN (power), 7 IN (power), 13 OUT (power), 14 OUT (power), 15 FB (in), 16 PG (hiz)
part B pins: 1 GND/HEATSINK (power), 2 GND/HEATSINK (power), 3 GND (power), 9 GND/HEATSINK (power), 10 GND/HEATSINK (power), 11 GND/HEATSINK (power), 12 GND/HEATSINK (power), 19 GND/HEATSINK (power), 20 GND/HEATSINK (power), 21 EP
part C pins: 4 NC, 8 NC, 17 NC, 18 NC

## TPS758A01KTTR
designator U?
Single Output Fast Transient Response LDO, 3 A, Adjustable 1.24 to 5 V Output, 2.8 to 5.5 V Input, 5-pin DDPAK (KTT), -40 to 125 degC, Green (RoHS & no Sb/Br); Manufacturer: Texas Instruments; PartNumber: TPS758A01KTTR; Accuracy(%): 3; Iq(Typ)(mA): 0.12; Rating: Catalog; SubFamily: Single Channel LDO; Vdo(Typ)(mV): 150; Vin(Max)(V): 5.5; Vin(Min)(V): 2.8; Vout Adj(Max)(V): 5; Vout Adj(Min)(V): 1.24; DatasheetVersion: SLVS330F; PackageVersion: 4200577-3/F; PackageReference: KTT5; PackageDescription: 3-Pin Plastic Flange Mount, Body 10.16 x 10.34 mm, Pitch 1.7 mm; Supplier 1: Digi-Key; Supplier Part Number 1: 296-21900-2-ND; Supplier 2: Digi-Key; Supplier Part Number 2: 296-21900-1-ND; Supplier 3: Digi-Key; Supplier Part Number 3: 296-21900-6-ND; Supplier 4: Newark; Supplier Part Number 4: 46M1172; Supplier 5: Mouser; Supplier Part Number 5: 595-TPS758A01KTTR; Eco-Plan: Green (RoHS & no Sb/Br); Iout(Max)(A): 3; Mounting Technology: Surface Mount; Code_JEDEC: TO-263; ComponentLink1Description: Manufacturer URL; ComponentLink1URL: http://www.ti.com/; ComponentLink2Description: Datasheet; ComponentLink2URL: http://www.ti.com/general/docs/lit/getliterature.tsp?genericPartNumber=TPS758A01&fileType=pdf; ComponentLink3Description: Package Specification; ComponentLink3URL: http://www.ti.com/litv/pdf/mpsf007e
footprint TI-KTT5_N (DPAK, 5-Leads, Body 10.16x8.925mm, Pitch 1.7mm, IPC Medium Density)
footprint TI-KTT5_L (DPAK, 5-Leads, Body 10.16x8.925mm, Pitch 1.7mm, IPC High Density)
footprint TI-KTT5_M (DPAK, 5-Leads, Body 10.16x8.925mm, Pitch 1.7mm, IPC Low Density)
pins: 1 EN (in) "Enable input", 2 IN (power) "Input supply", 3 GND (power) "Ground", 4 OUT (power) "Regulated output voltage; see Output Capacitor section for output capacitor requirements.", 5 FB (in) "Feedback voltage for adjustable device", 6 TAB (power)

## TPS758A01KTTRG3
designator U?
Single Output Fast Transient Response LDO, 3 A, Adjustable 1.24 to 5 V Output, 2.8 to 5.5 V Input, 5-pin DDPAK (KTT), -40 to 125 degC, Green (RoHS & no Sb/Br); Manufacturer: Texas Instruments; PartNumber: TPS758A01KTTRG3; Accuracy(%): 3; Iq(Typ)(mA): 0.12; Rating: Catalog; SubFamily: Single Channel LDO; Vdo(Typ)(mV): 150; Vin(Max)(V): 5.5; Vin(Min)(V): 2.8; Vout Adj(Max)(V): 5; Vout Adj(Min)(V): 1.24; DatasheetVersion: SLVS330F; PackageVersion: 4200577-3/F; PackageReference: KTT5; PackageDescription: 3-Pin Plastic Flange Mount, Body 10.16 x 10.34 mm, Pitch 1.7 mm; Supplier 1: Digi-Key; Supplier Part Number 1: TPS758A01KTTRG3-ND; Supplier 2: Newark; Supplier Part Number 2: 60M1817; Supplier 3: Mouser; Supplier Part Number 3: 595-TPS758A01KTTRG3; Eco-Plan: Green (RoHS & no Sb/Br); Iout(Max)(A): 3; Mounting Technology: Surface Mount; Code_JEDEC: TO-263; ComponentLink1Description: Manufacturer URL; ComponentLink1URL: http://www.ti.com/; ComponentLink2Description: Datasheet; ComponentLink2URL: http://www.ti.com/general/docs/lit/getliterature.tsp?genericPartNumber=TPS758A01&fileType=pdf; ComponentLink3Description: Package Specification; ComponentLink3URL: http://www.ti.com/litv/pdf/mpsf007e
footprint TI-KTT5_N (DPAK, 5-Leads, Body 10.16x8.925mm, Pitch 1.7mm, IPC Medium Density)
footprint TI-KTT5_L (DPAK, 5-Leads, Body 10.16x8.925mm, Pitch 1.7mm, IPC High Density)
footprint TI-KTT5_M (DPAK, 5-Leads, Body 10.16x8.925mm, Pitch 1.7mm, IPC Low Density)
pins: 1 EN (in) "Enable input", 2 IN (power) "Input supply", 3 GND (power) "Ground", 4 OUT (power) "Regulated output voltage; see Output Capacitor section for output capacitor requirements.", 5 FB (in) "Feedback voltage for adjustable device", 6 TAB (power)